# Altium schematic symbol library WSHM2818.SchLib: 1 symbol
Pins are listed as number, name and electrical type; pins without a type are passive.

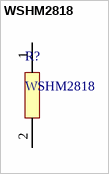
[diagram p0: symbol WSHM2818]

## WSHM2818
designator R?
footprint PCBComponent_1
pins: 1, 2